# EAGLE library part PIC18F6*20 (library Julian_microchip)
64-Pin High Performance, 1 Mbit Enhanced FLASH Microcontrollers with A/D DEVICE DIFFERENCES Feature PIC18F6520 PIC18F6620 PIC18F6720 On-chip Program Memory (Kbytes) 32 64 128 Data Memory (bytes) 2048 3840 3840 Boot Block (bytes) 2048 512 512 Timer1 Low Power Option Yes No No I/O Ports Ports A, B, C, D, E, F, G Ports A, B, C, D, E, F, G Ports A, B, C, D, E, F, G A/D Channels 12 12 12 External Memory Interface No No No Package Types 64-pin TQFP 64-pin TQFP 64-pin TQFP NOTES: E suffix means the extended temperature range from -40°C to +120°C I suffix means the industrial temperature range from -40°C to +85°C F only after 18, means normal voltage range, like 18F6520 FL after 18, means extended voltage range, like 18FL6520
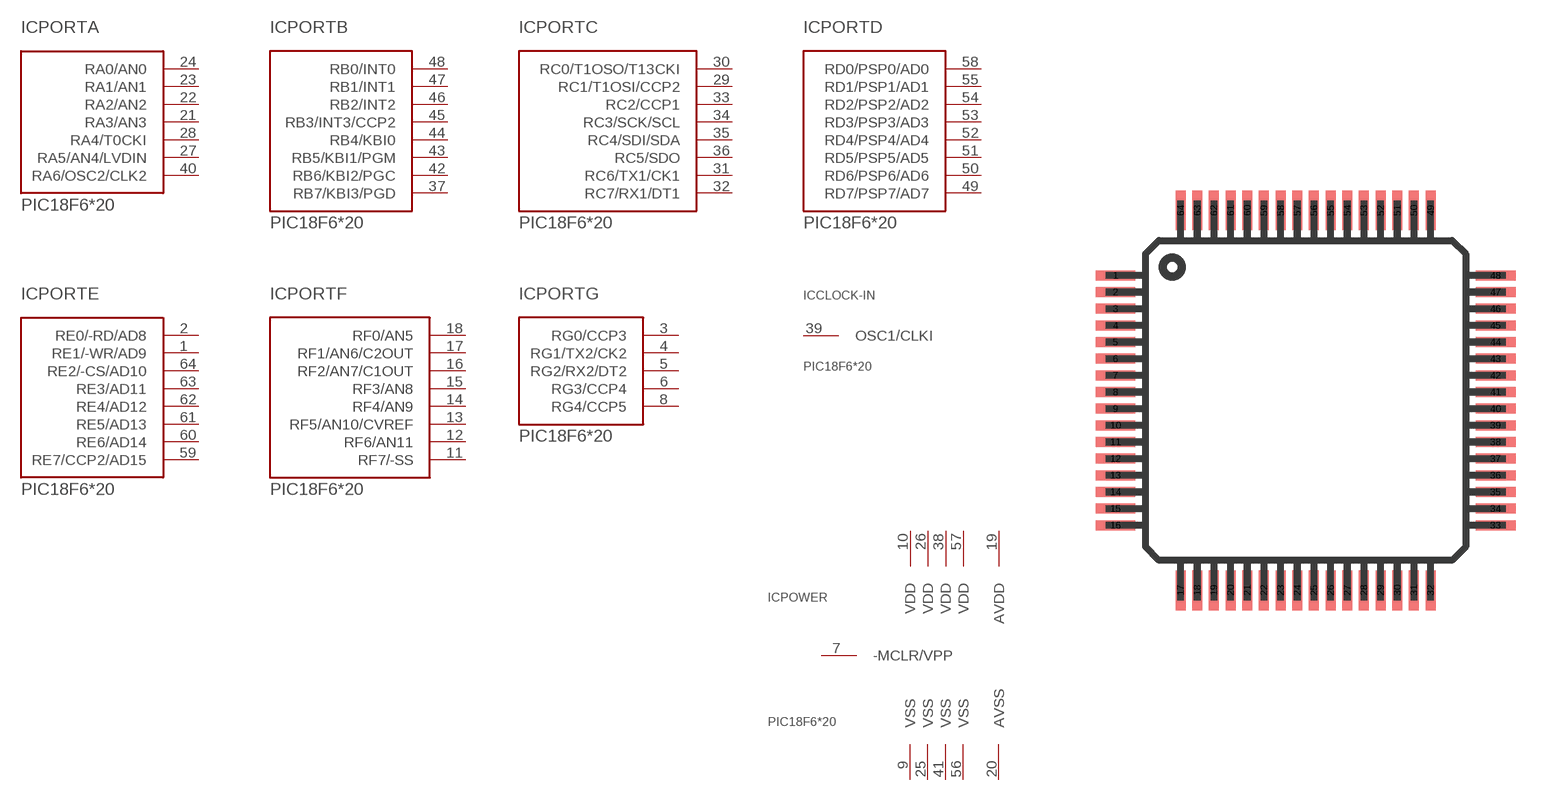
[diagram p0: symbol with the pads of TQFP64-10X10; footprint TQFP64-10X10]

Designator prefix IC; gates PORTA=PIC18FXX20-PORTA PORTB=PIC18FXX20-PORTB PORTC=PIC18FXX20-PORTC PORTD=PIC18FXX20-PORTD PORTE=PIC18FXX20-PORTE PORTF=PIC18FXX20-PORTF PORTG=PIC18FXX20-PORTG CLOCK-IN=PIC18FXX20-CLKIN POWER=PIC18FXX20-POWER

## PIC18F6520-E/PT, PIC18F6620-E/PT, PIC18F6720-E/PT  [TQFP64-10X10]
1  PORTE:RE1/-WR/AD9
2  PORTE:RE0/-RD/AD8
3  PORTG:RG0/CCP3
4  PORTG:RG1/TX2/CK2
5  PORTG:RG2/RX2/DT2
6  PORTG:RG3/CCP4
7  POWER:-MCLR/VPP  in
8  PORTG:RG4/CCP5
9  POWER:VSS  pwr
10  POWER:VDD  pwr
11  PORTF:RF7/-SS
12  PORTF:RF6/AN11
13  PORTF:RF5/AN10/CVREF
14  PORTF:RF4/AN9
15  PORTF:RF3/AN8
16  PORTF:RF2/AN7/C1OUT
17  PORTF:RF1/AN6/C2OUT
18  PORTF:RF0/AN5
19  POWER:AVDD  pwr
20  POWER:AVSS  pwr
21  PORTA:RA3/AN3
22  PORTA:RA2/AN2
23  PORTA:RA1/AN1
24  PORTA:RA0/AN0
25  POWER:VSS  pwr
26  POWER:VDD  pwr
27  PORTA:RA5/AN4/LVDIN
28  PORTA:RA4/T0CKI
29  PORTC:RC1/T1OSI/CCP2
30  PORTC:RC0/T1OSO/T13CKI
31  PORTC:RC6/TX1/CK1
32  PORTC:RC7/RX1/DT1
33  PORTC:RC2/CCP1
34  PORTC:RC3/SCK/SCL
35  PORTC:RC4/SDI/SDA
36  PORTC:RC5/SDO
37  PORTB:RB7/KBI3/PGD
38  POWER:VDD  pwr
39  CLOCK-IN:OSC1/CLKI  in
40  PORTA:RA6/OSC2/CLK2
41  POWER:VSS  pwr
42  PORTB:RB6/KBI2/PGC
43  PORTB:RB5/KBI1/PGM
44  PORTB:RB4/KBI0
45  PORTB:RB3/INT3/CCP2
46  PORTB:RB2/INT2
47  PORTB:RB1/INT1
48  PORTB:RB0/INT0
49  PORTD:RD7/PSP7/AD7
50  PORTD:RD6/PSP6/AD6
51  PORTD:RD5/PSP5/AD5
52  PORTD:RD4/PSP4/AD4
53  PORTD:RD3/PSP3/AD3
54  PORTD:RD2/PSP2/AD2
55  PORTD:RD1/PSP1/AD1
56  POWER:VSS  pwr
57  POWER:VDD  pwr
58  PORTD:RD0/PSP0/AD0
59  PORTE:RE7/CCP2/AD15
60  PORTE:RE6/AD14
61  PORTE:RE5/AD13
62  PORTE:RE4/AD12
63  PORTE:RE3/AD11
64  PORTE:RE2/-CS/AD10

## PIC18F6520-I/PT, PIC18F6620-I/PT, PIC18F6720-I/PT  [TQFP64-10X10]
Pads as for TQFP64-10X10

## Footprint TQFP64-10X10 (pad centres in mm)
Thin Quad Flat Pack package type TQ
smd 1.2 x 0.3: 1 -5.7,3.75; 2 -5.7,3.25; 3 -5.7,2.75; 4 -5.7,2.25; 5 -5.7,1.75; 6 -5.7,1.25; 7 -5.7,0.75; 8 -5.7,0.25; 9 -5.7,-0.25; 10 -5.7,-0.75; 11 -5.7,-1.25; 12 -5.7,-1.75; 13 -5.7,-2.25; 14 -5.7,-2.75; 15 -5.7,-3.25; 16 -5.7,-3.75; 33 5.7,-3.75; 34 5.7,-3.25; 35 5.7,-2.75; 36 5.7,-2.25; 37 5.7,-1.75; 38 5.7,-1.25; 39 5.7,-0.75; 40 5.7,-0.25; 41 5.7,0.25; 42 5.7,0.75; 43 5.7,1.25; 44 5.7,1.75; 45 5.7,2.25; 46 5.7,2.75; 47 5.7,3.25; 48 5.7,3.75
smd 0.3 x 1.2: 17 -3.75,-5.7; 18 -3.25,-5.7; 19 -2.75,-5.7; 20 -2.25,-5.7; 21 -1.75,-5.7; 22 -1.25,-5.7; 23 -0.75,-5.7; 24 -0.25,-5.7; 25 0.25,-5.7; 26 0.75,-5.7; 27 1.25,-5.7; 28 1.75,-5.7; 29 2.25,-5.7; 30 2.75,-5.7; 31 3.25,-5.7; 32 3.75,-5.7; 49 3.75,5.7; 50 3.25,5.7; 51 2.75,5.7; 52 2.25,5.7; 53 1.75,5.7; 54 1.25,5.7; 55 0.75,5.7; 56 0.25,5.7; 57 -0.25,5.7; 58 -0.75,5.7; 59 -1.25,5.7; 60 -1.75,5.7; 61 -2.25,5.7; 62 -2.75,5.7; 63 -3.25,5.7; 64 -3.75,5.7